# EAGLE library part AT45DB161D (library SparkFun)
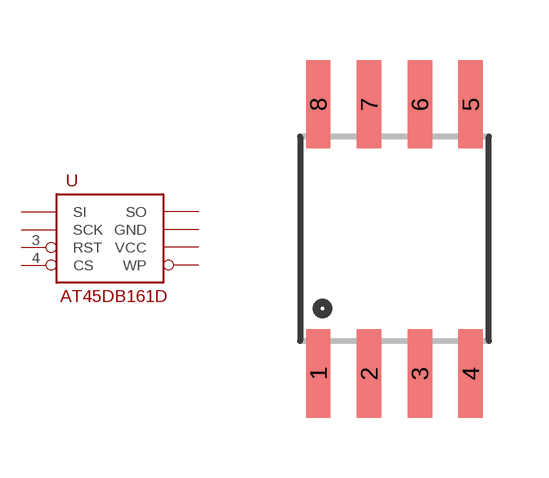
[diagram p304: symbol with the pads of SO08-EIAJ; footprint SO08-EIAJ]

Designator prefix -

## AT45DB161D  [SO08-EIAJ]
1  SI
2  SCK
3  RST
4  CS
5  WP
6  VCC
7  GND
8  SO

## Footprint SO08-EIAJ (pad centres in mm)
Fits EIAJ packages (wide version of the SOIC-8).
smd 0.61 x 2.21: 1 -1.905,-3.378; 2 -0.635,-3.378; 3 0.635,-3.378; 4 1.905,-3.378; 5 1.905,3.353; 6 0.635,3.353; 7 -0.635,3.353; 8 -1.905,3.353